# Altium footprint library hsbest.PcbLib: 389 footprints (part 16 of 25)
Each footprint in its own frame and in the unit in brackets; x right, y up, seen from the top. Pads: shape width x height; smd on the part's side, far side on the other; paste and mask are expansions set on the pad; w line width, h text height; cw(c..) or ccw(c..) is an arc to the next point about the centre after c.
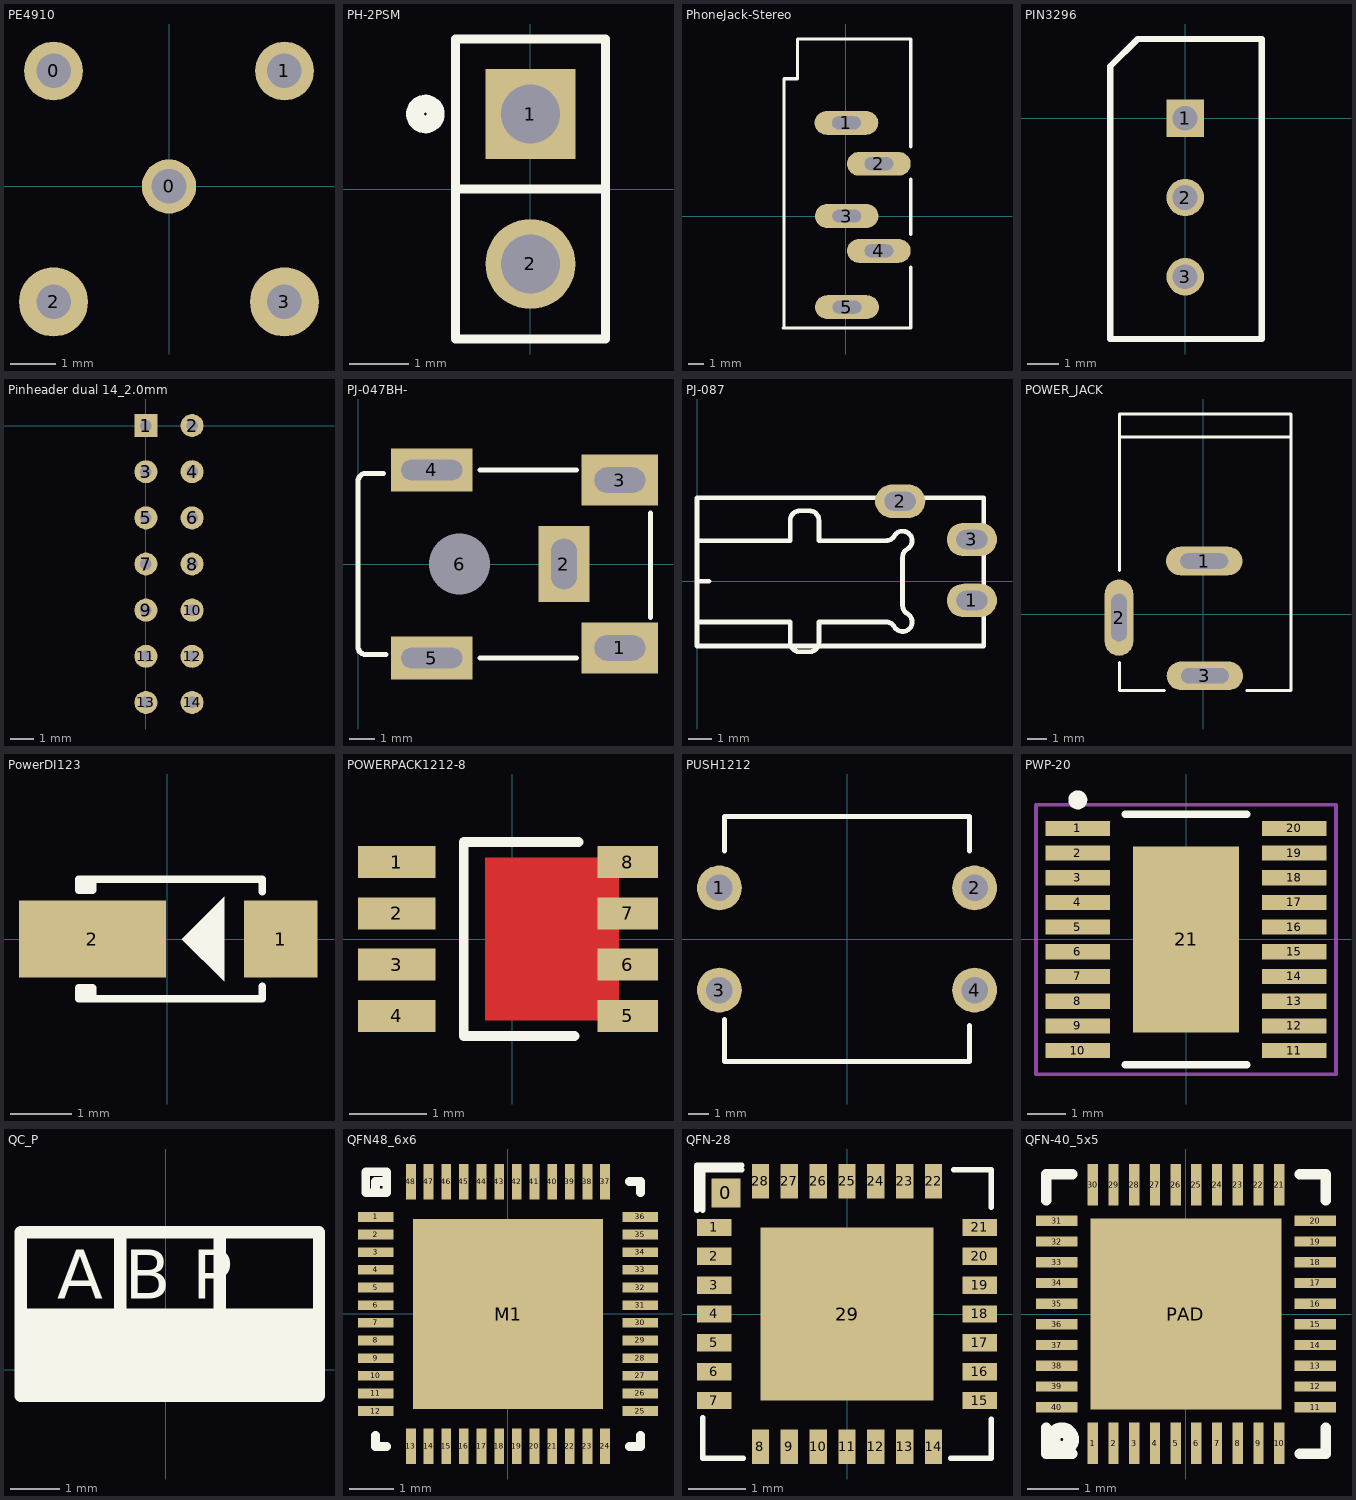
[diagram p15: the footprints below, top view; thin cyan lines are the x and y axes]

## PE4910 [mm]
pads (5):
  round 1.3 hole 0.762: 0(-2.55,2.55) 1(2.55,2.55)
  round 1.2 hole 0.762: 0(0,0)
  round 1.524 hole 0.762: 2(-2.55,-2.55) 3(2.55,-2.55)

## PH-2PSM [mil]
pads (2):
  rect 60x60 hole 39.37: 1(0,50)
  round 60 hole 39.37: 2(0,-50)
Top Overlay:
  circle w6: c-70,50 r9.84
  circle w6: c-70,50 r3.94
  lines w6: -50,0 50,0 ; -50,-100 50,-100 50,100 -50,100 -50,-100

## PhoneJack-Stereo [mm]
pads (5):
  oval 4x1.5 hole 0.8 slot 1.8 at 0 deg: 1(0.029,5.866) 2(2.064,3.296) 3(0.047,0.013) 4(2.064,-2.169) 5(0.064,-5.704)
Top Overlay:
  lines w0.2: 4.064,-3.2 4.064,-7.019 -3.936,-7.019 -3.886,-6.969 -3.886,8.62 -3.875,8.631 -3.036,8.631 -3.036,11.131 -1.836,11.131 -1.736,11.131 4.064,11.131 4.064,7.731 4.064,7.681 4.064,4.35 ; 4.064,-1.151 4.064,2.325

## PIN3296 [mm]
pads (3):
  rect 1.2x1.2 hole 0.8: 1(0,0)
  round 1.2 hole 0.8: 2(0,-2.54) 3(0,-5.08)
Top Overlay:
  lines w0.2: -2.4,-7.075 2.45,-7.075 2.45,2.54 -1.524,2.54 -2.4,1.664 -2.4,-7.075

## Pinheader dual 14_2.0mm [mm]
pads (14):
  rect 1x1 hole 0.5: 1(0,0)
  round 1 hole 0.5: 2(2,0) 3(0,-2) 4(2,-2) 5(0,-4) 6(2,-4) 7(0,-6) 8(2,-6) 9(0,-8) 10(2,-8) 11(0,-10) 12(2,-10) 13(0,-12) 14(2,-12)

## PJ-047BH- [mm]
pads (6):
  rect 3x2 hole 1 slot 2 at 0 deg: 1(10.3,-3.3) 3(10.3,3.3)
  rect 2x3 hole 1 slot 2 at 90 deg: 2(8.1,0)
  rect 3.2x1.7 hole 0.8 slot 2.4 at 0 deg: 4(2.9,3.7) 5(2.9,-3.7)
  round 2 hole 2.4 unplated: 6(4,0)
Top Overlay:
  lines w0.2: -0.003,-3.264 -0.003,-3.31 0.028,-3.372 0.043,-3.433 0.089,-3.464 0.135,-3.51 0.182,-3.526 0.243,-3.557 ; -0.003,3.31 0.028,3.372 0.043,3.418 0.089,3.464 0.135,3.51 0.182,3.541 0.243,3.557 0.305,3.557 1,3.557 ; 0,-3.264 0,3.31 ; 0.24,-3.557 1.1,-3.557 ; 4.8,-3.7 8.6,-3.7 ; 4.8,3.7 8.6,3.7 ; 11.5,-2.1 11.5,2

## PJ-087 [mm]
pads (3):
  oval 2.1x1.4 hole 0.8 slot 1.3 at 0 deg: 1(11.5,-0.8) 2(8.5,3.35) 3(11.5,1.75)
Top Overlay:
  lines w0.2: 0,-1.7 3.9,-1.7 3.9,-2.55 ccw(c4.3,-2.55) 4.3,-2.95 4.7,-2.95 ccw(c4.7,-2.55) 5.1,-2.55 5.1,-1.7 7.907,-1.7 cw(c7.907,-2.1) 8.254,-1.9 ccw(c8.6,-1.7) 8.8,-1.354 cw(c9,-1.007) 8.6,-1.007 8.6,1.007 cw(c9,1.007) 8.8,1.354 ccw(c8.6,1.7) 8.254,1.9 cw(c7.907,2.1) 7.907,1.7 5.1,1.7 5.1,2.55 ccw(c4.7,2.55) 4.7,2.95 4.3,2.95 ccw(c4.3,2.55) 3.9,2.55 3.9,1.7 0,1.7 ; 0,0.5 0,0 0.5,0 ; 0,-2.7 12,-2.7 12,3.5 0,3.5 0,-2.7

## POWER_JACK [mm]
pads (3):
  oval 4x1.5 hole 0.8 slot 2.5 at 0 deg: 1(0.059,2.779) 3(0.092,-3.243)
  oval 1.5x4 hole 0.8 slot 2.5 at 90 deg: 2(-4.41,-0.191)
Top Overlay:
  lines w0.15: -4.384,-2.54 -4.384,-4.01 -2.032,-4.01 ; -4.384,2.286 -4.384,10.49 4.616,10.49 4.616,-4.01 2.286,-4.01 ; -4.384,9.29 4.616,9.29

## PowerDI123 [mm]
pads (2):
  rect 1.2x1.25 smd: 1(1.85,0)
  rect 2.4x1.25 smd: 2(-1.225,0)
Top Overlay:
  region: 0.925,0.694 0.231,0 0.925,-0.694
  lines w0.125: -1.35,-0.975 -1.35,-0.8 ; -1.35,0.8 -1.35,0.95 ; -1.225,-0.975 -1.225,-0.8 -1.45,-0.8 -1.45,-0.975 1.55,-0.975 1.55,-0.775 ; -1.225,0.95 -1.225,0.8 -1.45,0.8 -1.45,0.975 1.55,0.975 1.55,0.775

## POWERPACK1212-8 [mm]
pads (8):
  rect 1x0.41 smd: 1(-1.485,0.99) 2(-1.485,0.33) 3(-1.485,-0.33) 4(-1.485,-0.99)
  rect 0.78x0.41 smd: 5(1.485,-0.99) 6(1.485,-0.33) 7(1.485,0.33) 8(1.485,0.99)
Top Layer:
  rectangle: -0.35,-1.05 1.375,1.05
Top Overlay:
  lines w0.127: 0.8,-1.25 -0.625,-1.25 -0.625,1.25 0.85,1.25

## PUSH1212 [mm] "温度传感器"
height 1.25
pads (4):
  round 2.2 hole 1.3: 1(-6.25,2.5) 2(6.25,2.5) 3(-6.25,-2.5) 4(6.25,-2.5)
Top Overlay:
  lines w0.254: -6,-3.95 -6,-6 6,-6 6,-4.25 ; -6,4.325 -6,6 6,6 6,4.325

## PWP-20 [mm]
pads (21):
  rect 1.7x0.4 smd: 1(-2.85,2.925) 2(-2.85,2.275) 3(-2.85,1.625) 4(-2.85,0.975) 5(-2.85,0.325) 6(-2.85,-0.325) 7(-2.85,-0.975) 8(-2.85,-1.625) 9(-2.85,-2.275) 10(-2.85,-2.925) 11(2.85,-2.925) 12(2.85,-2.275) 13(2.85,-1.625) 14(2.85,-0.975) 15(2.85,-0.325) 16(2.85,0.325) 17(2.85,0.975) 18(2.85,1.625) 19(2.85,2.275) 20(2.85,2.925)
  rect 2.8x4.9 smd: 21(0,0)
Top Overlay:
  circle w0.25: c-2.85,3.675 r0.125
  lines w0.2: -1.6,-3.3 1.6,-3.3 ; -1.6,3.3 1.6,3.3
Mechanical 15:
  lines w0.1: -0.5,0 0.5,0 ; 0,-0.5 0,0.5 ; -3.95,-3.55 -3.95,3.55 3.95,3.55 3.95,-3.55 -3.95,-3.55

## QC_P [mm]
Top Overlay:
  rectangle: -3,-0.475 3.1,1.25
  lines w0.254: -0.932,0.625 -0.932,2.81 ; 1.1,0.651 1.1,2.81 ; -2.964,-0.525 -2.964,2.81 3.132,2.81 3.132,-0.525 -2.964,-0.525
  text "A B P" at -2.216,1.454 h1

## QFN48_6x6 [mm]
pads (49):
  rrect0% 0.8x0.22 smd: 1(-3,2.2) 2(-3,1.8) 3(-3,1.4) 4(-3,1) 5(-3,0.6) 6(-3,0.2) 7(-3,-0.2) 8(-3,-0.6) 9(-3,-1) 10(-3,-1.4) 11(-3,-1.8) 12(-3,-2.2) 25(3,-2.2) 26(3,-1.8) 27(3,-1.4) 28(3,-1) 29(3,-0.6) 30(3,-0.2) 31(3,0.2) 32(3,0.6) 33(3,1) 34(3,1.4) 35(3,1.8) 36(3,2.2)
  rrect0% 0.22x0.8 smd: 13(-2.2,-3) 14(-1.8,-3) 15(-1.4,-3) 16(-1,-3) 17(-0.6,-3) 18(-0.2,-3) 19(0.2,-3) 20(0.6,-3) 21(1,-3) 22(1.4,-3) 23(1.8,-3) 24(2.2,-3) 37(2.2,3) 38(1.8,3) 39(1.4,3) 40(1,3) 41(0.6,3) 42(0.2,3) 43(-0.2,3) 44(-0.6,3) 45(-1,3) 46(-1.4,3) 47(-1.8,3) 48(-2.2,3)
  rect 4.3x4.3 smd: M1(0,0)
Top Overlay:
  lines w0.2: -3,-2.75 -3,-3 -2.75,-3 ; -3,2.75 -3,3 -2.75,3 ; 2.75,-3 3,-3 3,-2.75 ; 2.75,3 3,3 3,2.75 ; -3.225,2.75 -3.225,3.225 -2.75,3.225 -2.75,2.75 -3.225,2.75

## QFN-28 [mm]
pads (30):
  rect 0.5x0.5 smd: 0(-2.1,2.1)
  rect 0.6x0.3 smd: 1(-2.3,1.5) 2(-2.3,1) 3(-2.3,0.5) 4(-2.3,0) 5(-2.3,-0.5) 6(-2.3,-1) 7(-2.3,-1.5) 15(2.3,-1.5) 16(2.3,-1) 17(2.3,-0.5) 18(2.3,0) 19(2.3,0.5) 20(2.3,1) 21(2.3,1.5)
  rect 0.3x0.6 smd: 8(-1.5,-2.3) 9(-1,-2.3) 10(-0.5,-2.3) 11(0,-2.3) 12(0.5,-2.3) 13(1,-2.3) 14(1.5,-2.3) 22(1.5,2.3) 23(1,2.3) 24(0.5,2.3) 25(0,2.3) 26(-0.5,2.3) 27(-1,2.3) 28(-1.5,2.3)
  rect 3x3 smd: 29(0,0)
Top Overlay:
  lines w0.1: -2.6,1.8 -2.6,2.575 -1.825,2.575 ; -2.5,-1.8 -2.5,-2.5 -1.8,-2.5 ; -2.5,1.8 -2.5,2.5 -1.825,2.5 ; 1.8,-2.5 2.5,-2.5 2.5,-1.825 ; 1.85,2.5 2.5,2.5 2.5,1.85

## QFN-40_5x5 [mm]
pads (41):
  rect 0.2x0.8 smd paste-100 mask+0.05: 1(-1.8,-2.499) 2(-1.4,-2.499) 3(-1,-2.499) 4(-0.6,-2.499) 7(0.6,-2.499) 8(1,-2.499) 9(1.4,-2.499) 10(1.8,-2.499) 21(1.8,2.499) 22(1.4,2.499) 23(1,2.499) 24(0.6,2.499) 27(-0.6,2.499) 28(-1,2.499) 29(-1.4,2.499) 30(-1.8,2.499)
  rect 0.199x0.8 smd paste-100 mask+0.05: 5(-0.2,-2.499) 6(0.2,-2.499) 25(0.2,2.499) 26(-0.2,2.499)
  rect 0.8x0.2 smd paste-100 mask+0.05: 11(2.499,-1.8) 12(2.499,-1.4) 13(2.499,-1) 14(2.499,-0.6) 17(2.499,0.6) 18(2.499,1) 19(2.499,1.4) 20(2.499,1.8) 31(-2.499,1.8) 32(-2.499,1.4) 33(-2.499,1) 34(-2.499,0.6) 37(-2.499,-0.6) 38(-2.499,-1) 39(-2.499,-1.4) 40(-2.499,-1.8)
  rect 0.8x0.199 smd paste-100 mask+0.05: 15(2.499,-0.2) 16(2.499,0.2) 35(-2.499,0.2) 36(-2.499,-0.2)
  rect 3.7x3.7 smd paste-100 mask+0.05: PAD(0,0)
Top Overlay:
  lines w0.2: -2.7,-2.2 -2.7,-2.7 -2.2,-2.7 ; -2.7,2.2 -2.7,2.7 -2.2,2.7 ; 2.2,-2.7 2.7,-2.7 2.7,-2.2 ; 2.2,2.7 2.7,2.7 2.7,2.2
  lines w0.3: -2.402,-2.245 ccw(c-2.4,-2.425) -2.398,-2.245
Top Paste:
  drawing of 41 lines, arcs and shapes, not listed